# EAGLE library part MC33887 (library pie)
5.0A H-Bridge with Load Current Feedback Source: http://www.freescale.com/files/analog/doc/data_sheet/MC33887.pdf
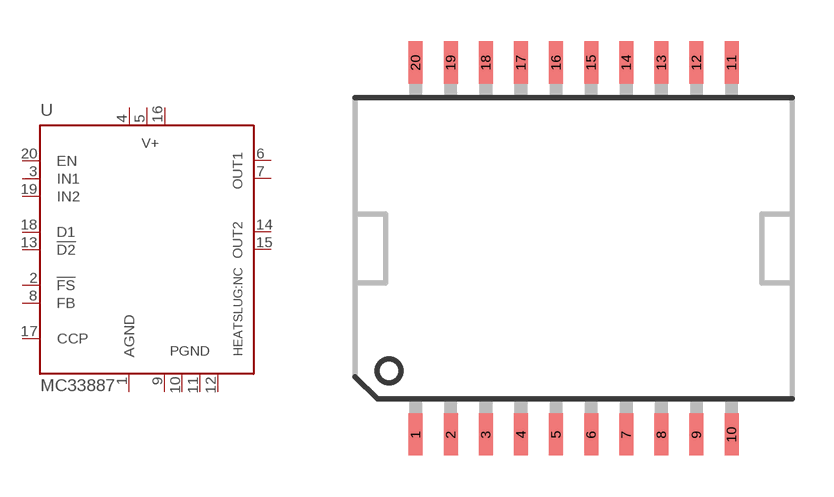
[diagram p1: symbol with the pads of HSOP-20; footprint HSOP-20]

Designator prefix -

## MC33887  [HSOP-20]
1  AGND  pwr
2  !FS  oc
3  IN1  in
4  V+  pwr
5  V+  pwr
6  OUT1  out
7  OUT1  out
8  FB  out
9  PGND  pwr
10  PGND  pwr
11  PGND  pwr
12  PGND  pwr
13  !D2  in
14  OUT2  out
15  OUT2  out
16  V+  pwr
17  CCP  pas
18  D1  in
19  IN2  in
20  EN  in

## Footprint HSOP-20 (pad centres in mm)
Heatsink Small Outline Package (HSOP) 20-pin Source: http://cache.freescale.com/files/analog/doc/app_note/AN2388.pdf
smd 0.508 x 1.524: 1 -5.715,-6.731; 2 -4.445,-6.731; 3 -3.175,-6.731; 4 -1.905,-6.731; 5 -0.635,-6.731; 6 0.635,-6.731; 7 1.905,-6.731; 8 3.175,-6.731; 9 4.445,-6.731; 10 5.715,-6.731; 11 5.715,6.731; 12 4.445,6.731; 13 3.175,6.731; 14 1.905,6.731; 15 0.635,6.731; 16 -0.635,6.731; 17 -1.905,6.731; 18 -3.175,6.731; 19 -4.445,6.731; 20 -5.715,6.731